# Altium schematic symbol library Switch_ICs.SchLib: 7 symbols
Pins are listed as number, name and electrical type; pins without a type are passive.

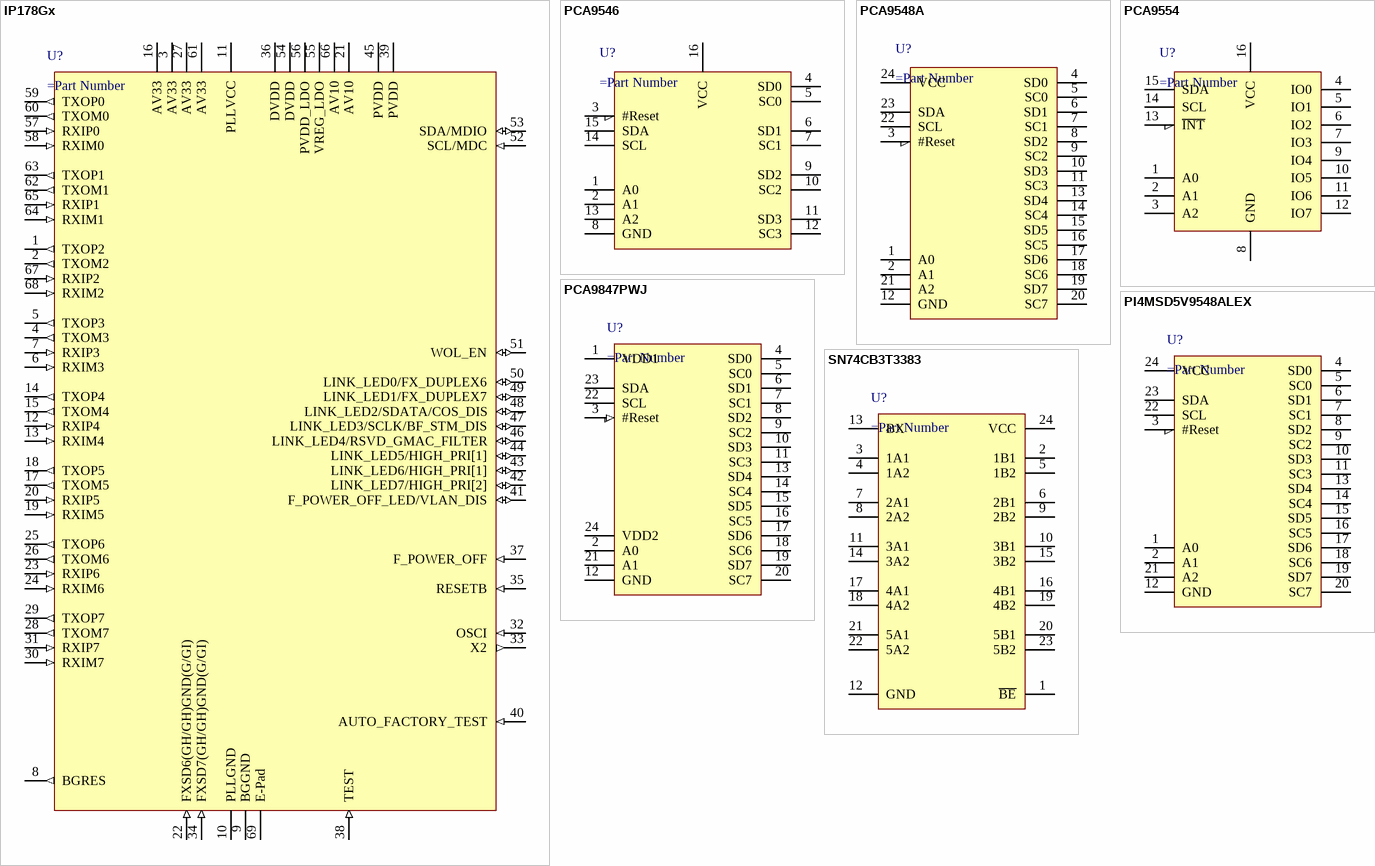
[diagram p0: symbols IP178Gx to SN74CB3T3383]

## IP178Gx
designator U?
pins: 1 TXOP2 (out), 2 TXOM2 (out), 3 AV33, 4 TXOM3 (out), 5 TXOP3 (out), 6 RXIM3 (in), 7 RXIP3 (in), 8 BGRES (out), 9 BGGND, 10 PLLGND, 11 PLLVCC, 12 RXIP4 (in), 13 RXIM4 (in), 14 TXOP4 (out), 15 TXOM4 (out), 16 AV33, 17 TXOM5 (out), 18 TXOP5 (out), 19 RXIM5 (in), 20 RXIP5 (in), 21 AV10, 22 FXSD6(GH/GH)GND(G/GI) (in), 23 RXIP6 (in), 24 RXIM6 (in), 25 TXOP6 (out), 26 TXOM6 (out), 27 AV33, 28 TXOM7 (out), 29 TXOP7 (out), 30 RXIM7 (in), 31 RXIP7 (in), 32 OSCI (in), 33 X2 (out), 34 FXSD7(GH/GH)GND(G/GI) (in), 35 RESETB (in), 36 DVDD, 37 F_POWER_OFF (in), 38 TEST (in), 39 PVDD, 40 AUTO_FACTORY_TEST (in), 41 F_POWER_OFF_LED/VLAN_DIS (io), 42 LINK_LED7/HIGH_PRI[2] (io), 43 LINK_LED6/HIGH_PRI[1] (io), 44 LINK_LED5/HIGH_PRI[1] (io), 45 PVDD, 46 LINK_LED4/RSVD_GMAC_FILTER (io), 47 LINK_LED3/SCLK/BF_STM_DIS (io), 48 LINK_LED2/SDATA/COS_DIS (io), 49 LINK_LED1/FX_DUPLEX7 (io), 50 LINK_LED0/FX_DUPLEX6 (io), 51 WOL_EN (io), 52 SCL/MDC (in), 53 SDA/MDIO (io), 54 DVDD, 55 VREG_LDO, 56 PVDD_LDO, 57 RXIP0 (in), 58 RXIM0 (in), 59 TXOP0 (out), 60 TXOM0 (out), 61 AV33, 62 TXOM1 (out), 63 TXOP1 (out), 64 RXIM1 (in), 65 RXIP1 (in), 66 AV10, 67 RXIP2 (in), 68 RXIM2 (in), 69 E-Pad

## PCA9546
designator U?
pins: 1 A0, 2 A1, 3 #Reset, 4 SD0, 5 SC0, 6 SD1, 7 SC1, 8 GND, 9 SD2, 10 SC2, 11 SD3, 12 SC3, 13 A2, 14 SCL, 15 SDA, 16 VCC

## PCA9548A
designator U?
pins: 1 A0, 2 A1, 3 #Reset, 4 SD0, 5 SC0, 6 SD1, 7 SC1, 8 SD2, 9 SC2, 10 SD3, 11 SC3, 12 GND, 13 SD4, 14 SC4, 15 SD5, 16 SC5, 17 SD6, 18 SC6, 19 SD7, 20 SC7, 21 A2, 22 SCL, 23 SDA, 24 VCC

## PCA9554
designator U?
pins: 1 A0, 2 A1, 3 A2, 4 IO0, 5 IO1, 6 IO2, 7 IO3, 8 GND (power), 9 IO4, 10 IO5, 11 IO6, 12 IO7, 13 ~{INT}, 14 SCL, 15 SDA, 16 VCC

## PCA9847PWJ
designator U?
pins: 1 VDD1, 2 A0, 3 #Reset (in), 4 SD0, 5 SC0, 6 SD1, 7 SC1, 8 SD2, 9 SC2, 10 SD3, 11 SC3, 12 GND (power), 13 SD4, 14 SC4, 15 SD5, 16 SC5, 17 SD6, 18 SC6, 19 SD7, 20 SC7, 21 A1, 22 SCL, 23 SDA, 24 VDD2

## PI4MSD5V9548ALEX
designator U?
pins: 1 A0, 2 A1, 3 #Reset, 4 SD0, 5 SC0, 6 SD1, 7 SC1, 8 SD2, 9 SC2, 10 SD3, 11 SC3, 12 GND, 13 SD4, 14 SC4, 15 SD5, 16 SC5, 17 SD6, 18 SC6, 19 SD7, 20 SC7, 21 A2, 22 SCL, 23 SDA, 24 VCC

## SN74CB3T3383
designator U?
pins: 1 ~{BE}, 2 1B1, 3 1A1, 4 1A2, 5 1B2, 6 2B1, 7 2A1, 8 2A2, 9 2B2, 10 3B1, 11 3A1, 12 GND, 13 BX, 14 3A2, 15 3B2, 16 4B1, 17 4A1, 18 4A2, 19 4B2, 20 5B1, 21 5A1, 22 5A2, 23 5B2, 24 VCC